# Altium schematic symbol library 68uH İndüktör.SchLib: 1 symbol
Pins are listed as number, name and electrical type; pins without a type are passive.

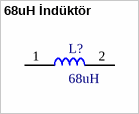
[diagram p0: symbol 68uH İndüktör]

## 68uH İndüktör
designator L?, comment 68uH
footprint 68uH İndüktör
pins: 1, 2